# EAGLE library part OLED-CONN (library bucket)
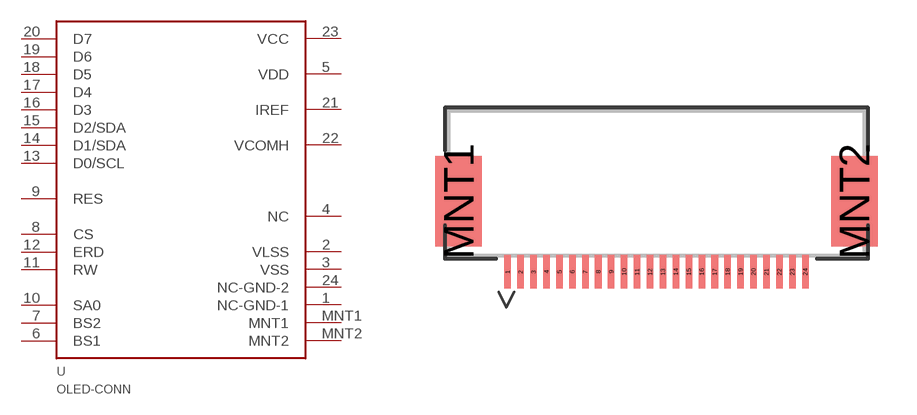
[diagram p5: symbol with the pads of CONN24_1X24_DRC_FFC_HIR; footprint CONN24_1X24_DRC_FFC_HIR]

Designator prefix U

## OLED-CONN  [CONN24_1X24_DRC_FFC_HIR]
1  NC-GND-1  in
2  VLSS  in
3  VSS  in
4  NC  in
5  VDD  in
6  BS1  in
7  BS2  in
8  CS  in
9  RES  in
10  SA0  in
11  RW  in
12  ERD  in
13  D0/SCL  in
14  D1/SDA  in
15  D2/SDA  in
16  D3  in
17  D4  in
18  D5  in
19  D6  in
20  D7  in
21  IREF  in
22  VCOMH  in
23  VCC  in
24  NC-GND-2  in
MNT1  MNT1  in
MNT2  MNT2  in

## Footprint CONN24_1X24_DRC_FFC_HIR (pad centres in mm)
smd 0.254 x 1.295: 1 -5.75,-3.429; 2 -5.25,-3.429; 3 -4.75,-3.429; 4 -4.25,-3.429; 5 -3.75,-3.429; 6 -3.25,-3.429; 7 -2.75,-3.429; 8 -2.25,-3.429; 9 -1.75,-3.429; 10 -1.25,-3.429; 11 -0.75,-3.429; 12 -0.25,-3.429; 13 0.25,-3.429; 14 0.75,-3.429; 15 1.25,-3.429; 16 1.75,-3.429; 17 2.25,-3.429; 18 2.75,-3.429; 19 3.25,-3.429; 20 3.75,-3.429; 21 4.25,-3.429; 22 4.75,-3.429; 23 5.25,-3.429; 24 5.75,-3.429
smd 1.803 x 3.5: MNT1 -7.645,-0.7; MNT2 7.645,-0.7